# Altium schematic symbol library DWKLib.SchLib: 2 symbols
Pins are listed as number, name and electrical type; pins without a type are passive.

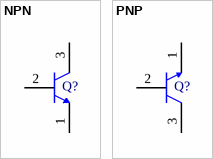
[diagram p0: symbols NPN to PNP]

## NPN
designator Q?
NPN Transistor
footprint MPSA42 (300V NPN Transistor, Complementary to MPSA92)
pins: 1 E, 2 B, 3 C

## PNP
designator Q?
PNP Transistor
footprint MPSA92 (300V PNP Transistor, Complementary to MPSA42)
pins: 1 E, 2 B, 3 C